# EAGLE library part CONN_ES103 (library vikc-display)
Eink 10.3" Connector FPC/FFC
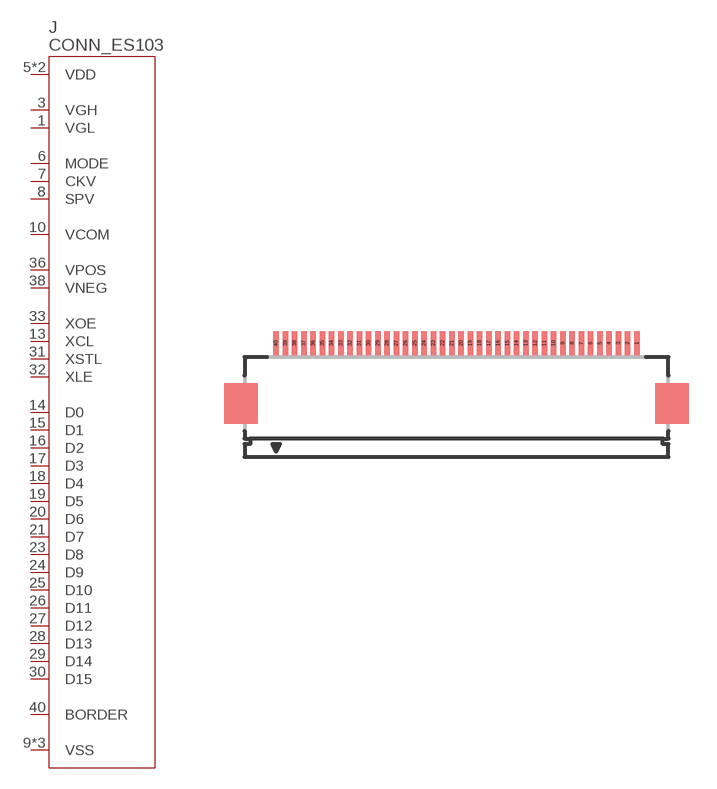
[diagram p1: symbol with the pads of FH12-40S-0.5SH; footprint FH12-40S-0.5SH]

Designator prefix J

## CONN_ES103  [FH12-40S-0.5SH]
1  VGL  pwr
3  VGH  pwr
5  VDD  pwr
6  MODE  in
7  CKV  in
8  SPV  in
9  VSS  pwr
10  VCOM  in
11  VDD  pwr
12  VSS  pwr
13  XCL  in
14  D0
15  D1
16  D2
17  D3
18  D4
19  D5
20  D6
21  D7
22  VSS  pwr
23  D8
24  D9
25  D10
26  D11
27  D12
28  D13
29  D14
30  D15
31  XSTL  in
32  XLE  in
33  XOE  in
36  VPOS  pwr
38  VNEG  pwr
40  BORDER  pas

## Footprint FH12-40S-0.5SH (pad centres in mm)
0.5mm Pitch Connectors For FPC/FFC Source: Data sheet <http://www.hirose.co.jp/cataloge_hp/e58605370.pdf>
smd 0.3 x 1.3: 1 9.75,3.25; 2 9.25,3.25; 3 8.75,3.25; 4 8.25,3.25; 5 7.75,3.25; 6 7.25,3.25; 7 6.75,3.25; 8 6.25,3.25; 9 5.75,3.25; 10 5.25,3.25; 11 4.75,3.25; 12 4.25,3.25; 13 3.75,3.25; 14 3.25,3.25; 15 2.75,3.25; 16 2.25,3.25; 17 1.75,3.25; 18 1.25,3.25; 19 0.75,3.25; 20 0.25,3.25; 21 -0.25,3.25; 22 -0.75,3.25; 23 -1.25,3.25; 24 -1.75,3.25; 25 -2.25,3.25; 26 -2.75,3.25; 27 -3.25,3.25; 28 -3.75,3.25; 29 -4.25,3.25; 30 -4.75,3.25; 31 -5.25,3.25; 32 -5.75,3.25; 33 -6.25,3.25; 34 -6.75,3.25; 35 -7.25,3.25; 36 -7.75,3.25; 37 -8.25,3.25; 38 -8.75,3.25; 39 -9.25,3.25; 40 -9.75,3.25